# EAGLE library part 691413720004 (library Wurth_Elektronik_Electromechanic_Terminal_Blocks_Connectors_rev15c)
WR-TBL Terminal block - serie 413 5.0mm - Spring clamp/Screw less - 45° entry - 04p Code:Con_TBL_Screwless_5.00_6914137200xxB_691413720004 <http://katalog.we-online.de/media/images/eican/Con_TBL_Screwless_5.00_6914137200xxB_pf2.jpg> Details see: http://katalog.we-online.de/en/em/691_413_720_0xxB/691_413_720_004B?m Created 2014-12-22, aslant tao 2014 (C) Würth Elektronik
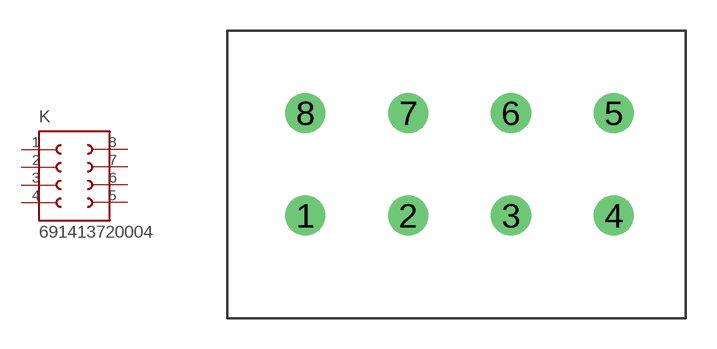
[diagram p281: symbol with the pads of 691413720004; footprint 691413720004]

Designator prefix K

## 691413720004  [691413720004]
1  1  pas
2  2  pas
3  3  pas
4  4  pas
5  5  pas
6  6  pas
7  7  pas
8  8  pas

## Footprint 691413720004 (pad centres in mm)
WR-TBL Serie 413 - 5.0mm Screwless 45° Entry - 3 mm2 Wires, 4 Pins
drill 1.3: 1 -5,0.04; 2 0,0.04; 3 5,0.04; 4 10,0.04; 5 10,5.04; 6 5,5.04; 7 0,5.04; 8 -5,5.04